# Altium schematic symbol library SEMATIK_LIB.SchLib: 632 symbols (part 19 of 21)
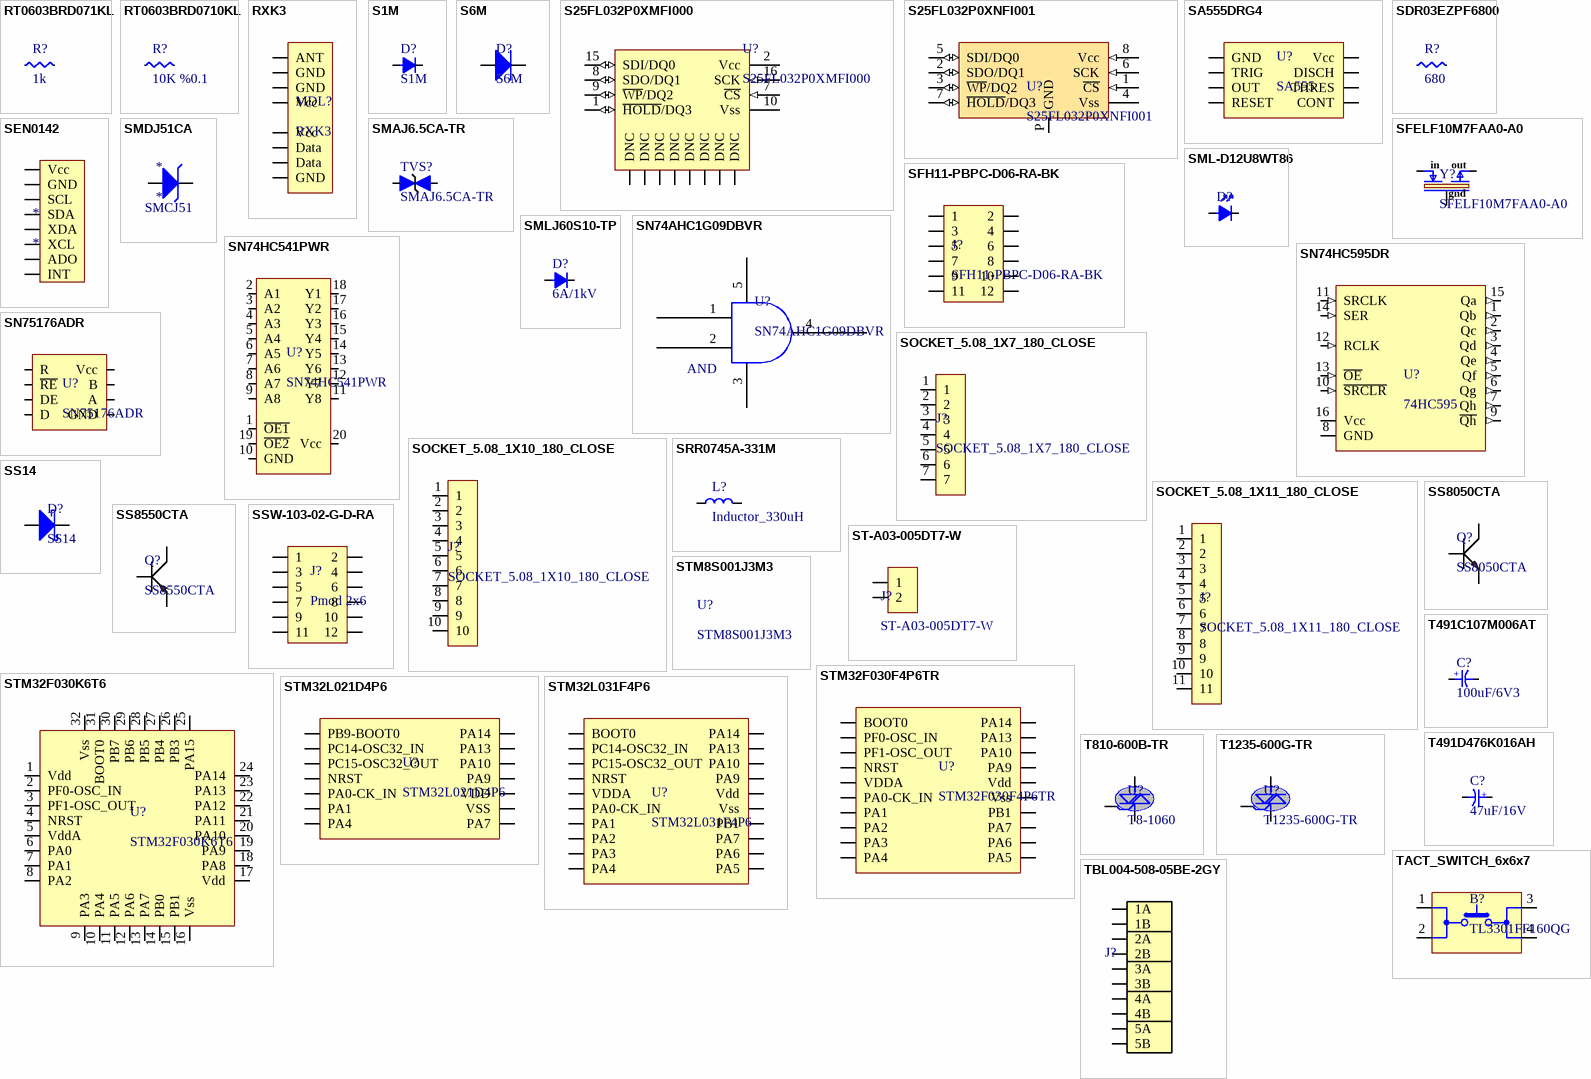
[diagram p34: symbols RT0603BRD071KL to TBL004-508-05BE-2GY]

## ST-A03-005DT7-W
designator J?
CONN JACK POWER 2570 IEC APPLIANCE INLET C8, PCB; Manufacturer: Schurter; Manufacturer Part Number: 4300.0104; Connector Type: Receptacle; Current: 2.5A; Fuse: No; Number of Positions: 2; Ratings: IP20; Approvals: UL,VDE,CCC; Supplier 1: Digi-Key; Stock 1: 2832; Pricing 1: 1 = 0,93000, 50 = 0,67600, 100 = 0,51600, 500 = 0,36400, 1000 = 0,35640 (USD); RoHS: No; Mount: Through Hole,Panel,Snap in; Packaging: Bulk; Termination: Quick Connect; Flammability Rating: UL94 V-0; ComponentLink1URL: https://us.schurter.com/bundles/snceschurter/epim/_ProdPool_/newDS/en/typ_2570.pdf?src-supplier=Digi-Key; ComponentLink1Description: https://us.schurter.com/bundles/snceschurter/epim/_ProdPool_/newDS/en/typ_2570.pdf?src-supplier=Digi-Key; Supplier Part Number 1: 486-4133-ND
footprint CONN_JACK_POWER_CHINA
pins: 1, 2

## STM8S001J3M3
designator U?
IC MCU 8BIT 8KB FLASH 16MHZ SO8M; Manufacturer: STMicroelectronics; Interface: I2C,SPI,IrDA,UART,USART; Peripherals: Brown-out Detect/Reset,POR,PWM,WDT; Number of I/Os: 5; Oscillator Type: Internal; Supplier 1: Digi-Key; Manufacturer Part Number: STM8S001J3M3; Stock 1: 5057; Pricing 1: 1 = 0,63000, 10 = 0,55400, 25 = 0,52080, 100 = 0,42500, 250 = 0,39480, 500 = 0,33600, 1000 = 0,26880, 2500 = 0,24360, 5000 = 0,22680 (USD); RoHS: No; Case/Package: SOIC; Min Operating Temperature: -40°C; Max Operating Temperature: 125°C; Memory Type: FLASH; Packaging: Rail/Tube; Frequency: 16MHz; Memory Size: 8KB; ComponentLink1URL: http://www.st.com/content/ccc/resource/technical/document/datasheet/group3/18/df/6e/12/9c/ca/41/75/DM00390996/files/DM00390996.pdf/jcr:content/translations/en.DM00390996.pdf?src-supplier=Digi-Key; ComponentLink1Description: http://www.st.com/content/ccc/resource/technical/document/datasheet/group3/18/df/6e/12/9c/ca/41/75/DM00390996/files/DM00390996.pdf/jcr:content/translations/en.DM00390996.pdf?src-supplier=Digi-Key; Supplier Part Number 1: 497-17612-ND

## STM32F030F4P6TR
designator U?
IC MCU 32BIT 16KB FLASH 20TSSOP; Manufacturer: STMicroelectronics; Frequency: 48MHz; Oscillator Type: Internal; Data Bus Width: 32b; Number of Programmable I/O: 15; Number of ADC Channels: 1; Peripherals: POR,PWM,WDT,DMA; Core Architecture: ARM; Operating Supply Voltage: 3.3V; RAM Size: 4KB; Max Power Dissipation: 182mW; Interface: I2C,SPI,USART,UART; Number of Timers/Counters: 10; Min Supply Voltage: 2.4V; Max Supply Voltage: 3.6V; Watchdog Timer: Yes; Supplier 1: Digi-Key; Manufacturer Part Number: STM32F030F4P6TR; RoHS: Yes; Category: Microcontrollers; Stock 1: 12305; Pricing 1: 1=1,18000, 10=1,05100, 25=0,99800, 100=0,81970, 250=0,76628, 500=0,67716, 1000=0,53460 (USD); Mount: Surface Mount; Case/Package: TSSOP; Number of Pins: 20; Weight: 0.006737oz; Contact Plating: Gold; Min Operating Temperature: -40°C; Max Operating Temperature: 85°C; Max Frequency: 48MHz; Number of SPI Channels: 1; Number of I2C Channels: 1; Packaging: Tape and Reel; Number of I/Os: 15; Package Quantity: 2500; Memory Type: FLASH; Memory Size: 16KB; Length: 6.6mm; Height: 1.05mm; Width: 4.5mm; Radiation Hardening: No; Lead Free: Lead Free; REACH SVHC: No SVHC; ComponentLink1URL: https://datasheet.ciiva.com/46427/1792126-46427290.pdf?src-supplier=Element14; ComponentLink1Description: https://datasheet.ciiva.com/46427/1792126-46427290.pdf?src-supplier=Element14; ComponentLink2URL: https://datasheet.ciiva.com/29719/dm00088500-29719196.pdf?src-supplier=Digi-Key; ComponentLink2Description: https://datasheet.ciiva.com/29719/dm00088500-29719196.pdf?src-supplier=Digi-Key; ComponentLink3URL: https://datasheet.ciiva.com/29987/dm00088500-29987016.pdf?src-supplier=Avnet; ComponentLink3Description: https://datasheet.ciiva.com/29987/dm00088500-29987016.pdf?src-supplier=Avnet; Supplier Part Number 1: 497-17333-6-ND
footprint TSSOP20
pins: 1 BOOT0, 2 PF0-OSC_IN, 3 PF1-OSC_OUT, 4 NRST, 5 VDDA, 6 PA0-CK_IN, 7 PA1, 8 PA2, 9 PA3, 10 PA4, 11 PA5, 12 PA6, 13 PA7, 14 PB1, 15 Vss, 16 Vdd, 17 PA9, 18 PA10, 19 PA13, 20 PA14

## STM32F030K6T6
designator U?
IC MCU 32BIT 32KB FLASH 32LQFP; Manufacturer: STMicroelectronics; Interface: I2C,SPI,UART,USART; Core Architecture: ARM; Operating Supply Voltage: 3.3V; Data Bus Width: 32b; Frequency: 48MHz; RAM Size: 4KB; Max Supply Voltage: 3.6V; Max Power Dissipation: 357mW; Number of I/Os: 26; Number of Timers/Counters: 5; Min Supply Voltage: 2.4V; Oscillator Type: Internal; Number of ADC Channels: 12; Number of SPI Channels: 1; Watchdog Timer: Yes; Peripherals: POR,PWM,WDT,DMA; Supplier 1: Digi-Key; Manufacturer Part Number: STM32F030K6T6; Stock 1: 0; Pricing 1: 1 = 1,81000, 10 = 1,61400, 25 = 1,53240, 100 = 1,25880, 250 = 1,17668, 500 = 1,03984, 1000 = 0,82093, 2500 = 0,76620, 5000 = 0,72789 (USD); RoHS: Yes; Case/Package: LQFP; Number of Pins: 32; Weight: 0.027302oz; Contact Plating: Tin; Min Operating Temperature: -40°C; Max Operating Temperature: 85°C; Package Quantity: 250; Packaging: Tray; Memory Type: FLASH; Max Frequency: 48MHz; Number of I2C Channels: 1; Number of Programmable I/O: 26; Memory Size: 32KB; Length: 7.2mm; Width: 7.2mm; Height: 1.45mm; Radiation Hardening: No; REACH SVHC: No SVHC; Lead Free: Lead Free; ComponentLink1URL: https://datasheet.ciiva.com/29987/dm00088500-29987017.pdf?src-supplier=Avnet; ComponentLink1Description: https://datasheet.ciiva.com/29987/dm00088500-29987017.pdf?src-supplier=Avnet; ComponentLink2URL: https://datasheet.ciiva.com/46427/1792126-46427291.pdf?src-supplier=Element14; ComponentLink2Description: https://datasheet.ciiva.com/46427/1792126-46427291.pdf?src-supplier=Element14; Supplier Part Number 1: 497-14046-ND
footprint LQFP32 (QFN, 32-Leads, Body 7,00x7,00mm, Pitch 0,80mm, Thermal Pad 6,15x6,15mm, IPC Medium Density)
pins: 1 Vdd, 2 PF0-OSC_IN, 3 PF1-OSC_OUT, 4 NRST, 5 VddA, 6 PA0, 7 PA1, 8 PA2, 9 PA3, 10 PA4, 11 PA5, 12 PA6, 13 PA7, 14 PB0, 15 PB1, 16 Vss, 17 Vdd, 18 PA8, 19 PA9, 20 PA10, 21 PA11, 22 PA12, 23 PA13, 24 PA14, 25 PA15, 26 PB3, 27 PB4, 28 PB5, 29 PB6, 30 PB7, 31 BOOT0, 32 Vss

## STM32L021D4P6
designator U?
IC MCU 32BIT 16KB FLASH 14TSSOP; Manufacturer: STMicroelectronics; Interface: I2C,SPI,IrDA,UART,USART; Peripherals: Brown-out Detect/Reset,POR,PWM,WDT,DMA; Core Architecture: ARM; Frequency: 32MHz; Number of I/Os: 11; Oscillator Type: Internal; Supplier 1: Digi-Key; Manufacturer Part Number: STM32L021D4P6; Stock 1: 798; Pricing 1: 1=1.73, 10=1.55, 25=1.4624, 100=1.2461, 250=1.17, 500=1.02376, 1000=0.84825, 2500=0.78975, 5000=0.7605 (USD); Case/Package: TSSOP; Min Operating Temperature: -40°C; Max Operating Temperature: 85°C; Packaging: Rail/Tube; Memory Type: FLASH; Memory Size: 16KB; Supplier Part Number 1: 497-17481-ND
footprint TSSOP14
pins: 1 PB9-BOOT0, 2 PC14-OSC32_IN, 3 PC15-OSC32_OUT, 4 NRST, 5 PA0-CK_IN, 6 PA1, 7 PA4, 8 PA7, 9 VSS, 10 VDD, 11 PA9, 12 PA10, 13 PA13, 14 PA14

## STM32L031F4P6
designator U?
IC MCU 32BIT 16KB FLASH 20TSSOP; Manufacturer: STMicroelectronics; Core Architecture: ARM; Interface: I2C,SPI,USART; Number of Timers/Counters: 4; Number of Programmable I/O: 15; Data Bus Width: 32b; Max Frequency: 32MHz; Watchdog Timer: Yes; Max Power Dissipation: 333mW; RAM Size: 8KB; Min Supply Voltage: 1.8V; Max Supply Voltage: 3.6V; Number of ADC Channels: 10; Supplier 1: Digi-Key; Manufacturer Part Number: STM32L031F4P6; RoHS: Yes; Category: Microcontrollers; Stock 1: 1317; Pricing 1: 1=1,83000, 10=1,64800, 25=1,55520, 100=1,32490, 250=1,24400, 500=1,08850, 1000=0,90190, 2500=0,83970, 5000=0,80860 (USD); Mount: Surface Mount; Case/Package: TSSOP; Number of Pins: 20; Min Operating Temperature: -40°C; Max Operating Temperature: 85°C; Memory Type: FLASH; Memory Size: 16KB; Number of I/Os: 15; Package Quantity: 600; ComponentLink1URL: http://www.mouser.com/ds/2/389/stm32l031g4-956322.pdf?src-supplier=Mouser; ComponentLink1Description: http://www.mouser.com/ds/2/389/stm32l031g4-956322.pdf?src-supplier=Mouser; ComponentLink2URL: http://www.st.com/content/ccc/resource/technical/document/reference_manual/21/bd/0f/bd/1c/88/40/f0/DM00108282.pdf/files/DM00108282.pdf/jcr:content/translations/en.DM00108282.pdf?src-supplier=Digi-Key; ComponentLink2Description: http://www.st.com/content/ccc/resource/technical/document/reference_manual/21/bd/0f/bd/1c/88/40/f0/DM00108282.pdf/files/DM00108282.pdf/jcr:content/translations/en.DM00108282.pdf?src-supplier=Digi-Key; ComponentLink3URL: http://www.st.com/content/ccc/resource/technical/document/datasheet/aa/5d/77/ad/1a/59/4a/b9/DM00140359.pdf/files/DM00140359.pdf/jcr:content/translations/en.DM00140359.pdf?src-supplier=Avnet+Asia; ComponentLink3Description: http://www.st.com/content/ccc/resource/technical/document/datasheet/aa/5d/77/ad/1a/59/4a/b9/DM00140359.pdf/files/DM00140359.pdf/jcr:content/translations/en.DM00140359.pdf?src-supplier=Avnet+Asia; Supplier Part Number 1: 497-17483-ND
footprint TSSOP20
pins: 1 BOOT0, 2 PC14-OSC32_IN, 3 PC15-OSC32_OUT, 4 NRST, 5 VDDA, 6 PA0-CK_IN, 7 PA1, 8 PA2, 9 PA3, 10 PA4, 11 PA5, 12 PA6, 13 PA7, 14 PB1, 15 Vss, 16 Vdd, 17 PA9, 18 PA10, 19 PA13, 20 PA14

## T491C107M006AT
designator C?, comment 100uF/6V3
CAP TANT uF 100 6.3V 20% 2312; Manufacturer: KEMET; Manufacturer Part Number: T491C107M006AT; Dielectric Material: Tantalum; Capacitance: 100uF; ESR (Equivalent Series Resistance): 900mR; Ripple Current: 350mA; Leakage Current: 8uA; Polarity: Polar; Voltage Rating (DC): 6V; Life (Hours): 2000Hour; Dissipation Factor: 8%; Supplier 1: Digi-Key; Stock 1: 31000; Pricing 1: 500 = 0,30856, 1000 = 0,25984, 2500 = 0,24360, 5000 = 0,22736, 12500 = 0,21599 (USD); RoHS: Yes; Mount: Surface Mount; Case/Package: Molded; Number of Pins: 2; Weight: 0.005291oz; Case Code (Metric): 6032; Case Code (Imperial): 2413; Min Operating Temperature: -55°C; Max Operating Temperature: 125°C; Voltage Rating: 6.3V; Tolerance: 20%; Packaging: Tape and Reel; Package Quantity: 1; Failure Rate: 0.001%; Termination: SMD/SMT; Features: General Purpose; Length: 6mm; Height: 2.8mm; Width: 0.126inch; Height - Seated (Max): 0.11inch; Depth: 3.2mm; Radiation Hardening: No; Lead Free: Lead Free; REACH SVHC: No SVHC; ComponentLink1URL: https://datasheet.ciiva.com/27052/1573863-27052574.pdf?src-supplier=Jameco; ComponentLink1Description: https://datasheet.ciiva.com/27052/1573863-27052574.pdf?src-supplier=Jameco; ComponentLink2URL: https://datasheet.ciiva.com/6229/kem-t2005-t491-6229067.pdf?src-supplier=Digi-Key; ComponentLink2Description: https://datasheet.ciiva.com/6229/kem-t2005-t491-6229067.pdf?src-supplier=Digi-Key; ComponentLink3URL: https://datasheet.ciiva.com/6229/kem-t2005-t491-6229068.pdf?src-supplier=Digi-Key; ComponentLink3Description: https://datasheet.ciiva.com/6229/kem-t2005-t491-6229068.pdf?src-supplier=Digi-Key; ComponentLink4URL: https://datasheet.ciiva.com/6229/kem-t2005-t491-6229069.pdf?src-supplier=Digi-Key; ComponentLink4Description: https://datasheet.ciiva.com/6229/kem-t2005-t491-6229069.pdf?src-supplier=Digi-Key; ComponentLink5URL: https://datasheet.ciiva.com/12911/kem-t2005-t491-12911359.pdf?src-supplier=Mouser; ComponentLink5Description: https://datasheet.ciiva.com/12911/kem-t2005-t491-12911359.pdf?src-supplier=Mouser; Supplier Part Number 1: 399-8339-2-ND
footprint CAP_TANTALUM_C_Case_2312
pins: 1, 2
text: +

## T491D476K016AH
designator C?, comment 47uF/16V
CAP TANT uF 47 10% 16V CASE D 2917; Manufacturer: KEMET; Manufacturer Part Number: T491D476K016AH; Polarity: Polar; Capacitance: 47uF; ESR (Equivalent Series Resistance): 800mR; Life (Hours): 2000Hour; Dissipation Factor: 6%; Supplier 1: Digi-Key; Stock 1: 43; Pricing 1: 1 = 1,30000, 10 = 1,02900, 50 = 0,89180, 100 = 0,77180 (USD); RoHS: Yes; Mount: Surface Mount; Case/Package: 2917; Number of Pins: 2; Case Code (Metric): 7343; Case Code (Imperial): 2917; Min Operating Temperature: -55°C; Max Operating Temperature: 125°C; Failure Rate: 0.001%; Termination: SMD/SMT; Voltage Rating: 16V; Tolerance: 10%; Packaging: Tape and Reel; Package Quantity: 500; Features: General Purpose; Voltage Rating (DC): 16V; Length: 7.3mm; Width: 0.169inch; Height: 3.1mm; Height - Seated (Max): 0.122inch; Depth: 4.3mm; Radiation Hardening: No; REACH SVHC: No SVHC; Lead Free: Lead Free; ComponentLink1URL: https://datasheet.ciiva.com/28638/1504561-28638832.pdf?src-supplier=Element14; ComponentLink1Description: https://datasheet.ciiva.com/28638/1504561-28638832.pdf?src-supplier=Element14; ComponentLink2URL: https://datasheet.ciiva.com/6229/kem-t2005-t491-6229241.pdf?src-supplier=Digi-Key; ComponentLink2Description: https://datasheet.ciiva.com/6229/kem-t2005-t491-6229241.pdf?src-supplier=Digi-Key; ComponentLink3URL: https://datasheet.ciiva.com/12910/kem-t2005-t491-12910027.pdf?src-supplier=Mouser; ComponentLink3Description: https://datasheet.ciiva.com/12910/kem-t2005-t491-12910027.pdf?src-supplier=Mouser; ComponentLink4URL: https://datasheet.ciiva.com/6246/kem-t2005-t491-6246750.pdf?src-supplier=Digi-Key; ComponentLink4Description: https://datasheet.ciiva.com/6246/kem-t2005-t491-6246750.pdf?src-supplier=Digi-Key; ComponentLink5URL: https://datasheet.ciiva.com/6246/kem-t2005-t491-6246751.pdf?src-supplier=Digi-Key; ComponentLink5Description: https://datasheet.ciiva.com/6246/kem-t2005-t491-6246751.pdf?src-supplier=Digi-Key; Supplier Part Number 1: 399-8390-1-ND
footprint CAP_TANT_Case_D
pins: 1, 2
text: +

## T810-600B-TR
designator U?, comment T8-1060
TRIAC SENS GATE 600V 8A DPAK; Manufacturer: STMicroelectronics; Manufacturer Part Number: T810-600B-TR; Element Configuration: Single; Hold Current: 15mA; Supplier 1: Digi-Key; Stock 1: 20404; Pricing 1: 1=1.38, 10=1.237, 100=0.9642, 500=0.7965, 1000=0.62882 (USD); Mount: Surface Mount; Case/Package: DPAK; Number of Pins: 3; Min Operating Temperature: -40°C; Max Operating Temperature: 125°C; Packaging: Tape and Reel; Package Quantity: 2500; RMS Current (Irms): 8A; Max Repetitive Reverse Voltage (Vrrm): 600V; Current Rating: 8A; Voltage Rating (DC): 600V; Length: 6.73mm; Height: 2.4mm; Width: 6.22mm; Radiation Hardening: No; Lead Free: Lead Free; ComponentLink1URL: http://www.st.com/web/en/resource/technical/document/datasheet/CD00002266.pdf?src-supplier=Avnet; ComponentLink1Description: http://www.st.com/web/en/resource/technical/document/datasheet/CD00002266.pdf?src-supplier=Avnet; ComponentLink2URL: http://www.mouser.com/ds/2/389/bta08-954515.pdf?src-supplier=Mouser; ComponentLink2Description: http://www.mouser.com/ds/2/389/bta08-954515.pdf?src-supplier=Mouser; ComponentLink3URL: https://www.verical.com/server-webapp/html/getDatasheet?partID=136340&src-supplier=Verical; ComponentLink3Description: https://www.verical.com/server-webapp/html/getDatasheet?partID=136340&src-supplier=Verical; ComponentLink4URL: http://www.st.com/web/en/resource/technical/document/datasheet/CD00002266.pdf?src-supplier=Future+Electronics; ComponentLink4Description: http://www.st.com/web/en/resource/technical/document/datasheet/CD00002266.pdf?src-supplier=Future+Electronics; ComponentLink5URL: http://datasheet.iiic.cc/stmicroelectronics/T810-600B-TR.pdf?src-supplier=IIIC; ComponentLink5Description: http://datasheet.iiic.cc/stmicroelectronics/T810-600B-TR.pdf?src-supplier=IIIC; Supplier Part Number 1: 497-6596-1-ND
footprint DPAK
pins: 1 A2, 2 A1, 3 GATE

## T1235-600G-TR
designator U?
TRIAC ALTERNISTOR 600V 12A D2PAK; Manufacturer 1: STMicroelectronics; Element Configuration: Single; Hold Current: 35mA; Supplier 1: Digi-Key; Manufacturer Part Number 1: T1235-600G-TR; Description 1: TRIAC ALTERNISTOR 600V 12A D2PAK; Stock 1: 10854; Pricing 1: 1=1.54, 10=1.387, 100=1.1149, 500=0.91604 (USD); Mount: Surface Mount; Case/Package: D2PAK; Number of Pins: 3; Min Operating Temperature: -40°C; Max Operating Temperature: 125°C; Packaging: Tape and Reel; Package Quantity: 1000; RMS Current (Irms): 12A; Max Repetitive Reverse Voltage (Vrrm): 600V; Current Rating: 12A; Voltage Rating (DC): 600V; Length: 10.28mm; Height: 4.6mm; Width: 9.35mm; Radiation Hardening: No; REACH SVHC: No SVHC; Lead Free: Lead Free; ComponentLink1URL: http://www.st.com/st-web-ui/static/active/en/resource/technical/document/datasheet/CD00002267.pdf?src-supplier=Avnet+Europe; ComponentLink1Description: http://www.st.com/st-web-ui/static/active/en/resource/technical/document/datasheet/CD00002267.pdf?src-supplier=Avnet+Europe; ComponentLink2URL: http://www.farnell.com/datasheets/1717978.pdf?src-supplier=Element14; ComponentLink2Description: http://www.farnell.com/datasheets/1717978.pdf?src-supplier=Element14; ComponentLink3URL: https://www.verical.com/server-webapp/html/getDatasheet?partID=93194&src-supplier=Verical; ComponentLink3Description: https://www.verical.com/server-webapp/html/getDatasheet?partID=93194&src-supplier=Verical; Supplier Part Number 1: 497-6592-1-ND
footprint D2PAK
pins: 1 A1, 2 A2, 3 GATE

## TACT_SWITCH_6x6x7
designator B?, comment TL3301FF160QG
SWITCH TACTILE SPST-NO 0.05A 12V; Manufacturer: E-Switch; Switch Function: Off-Mom; Contact Rating @ Voltage: 0.05A @ 12VDC; Actuator Type: Standard; Actuator Height off PCB, Vertical: 7.00mm; Actuator Orientation: Top Actuated; Outline: 6.00mm x 6.00mm; Illumination: Non-Illuminated; Operating Force: 160gf; Actuator Material: Polyamide (PA), Nylon; Switch Travel: 0.25mm; Mechanical Life: 100,000 Cycles; Supplier 1: Digi-Key; Manufacturer Part Number: TL3301FF160QG; RoHS: RoHS Compliant; Category: Switches; Stock 1: 36000; Pricing 1: 750=0.24, 1500=0.204, 5250=0.171 (USD); Packaging: Tape & Reel (TR); Part Status: Active; Circuit: SPST-NO; Mounting Type: Surface Mount; Actuator Length, Right Angle: -; Termination Style: Gull Wing; Illumination Type, Color: -; Illumination Voltage (Nominal): -; Ingress Protection: -; Features: -; Operating Temperature: -20°C ~ 70°C; ComponentLink1URL: http://spec_sheets.e-switch.com/specs/P010536.pdf; ComponentLink1Description: http://spec_sheets.e-switch.com/specs/P010536.pdf; Supplier Part Number 1: EG4375TR-ND
footprint Tact_Switch_smd_6x6x7
pins: 1, 2, 3, 4

## TBL004-508-05BE-2GY
designator J?  (value not drawn)
TERM BLOCK 5POS 5.08MM 90 DRC PCB SPRING TYPE; Manufacturer: CUI; Supplier 1: Digi-Key; Manufacturer Part Number: TBL004-508-05BE-2GY; Stock 1: 344; Pricing 1: 1 = 1,68000, 10 = 1,18300, 25 = 1,10320, 50 = 1,00120, 100 = 0,99680, 250 = 0,84172, 500 = 0,79740, 1000 = 0,70880, 5000 = 0,57590 (USD); RoHS: No; Supplier Part Number 1: 102-TBL004-508-05BE-2GY-ND
footprint SOCKET_5.08_2X5_Screwless_90
pins: 1A, 1B, 2A, 2B, 3A, 3B, 4A, 4B, 5A, 5B

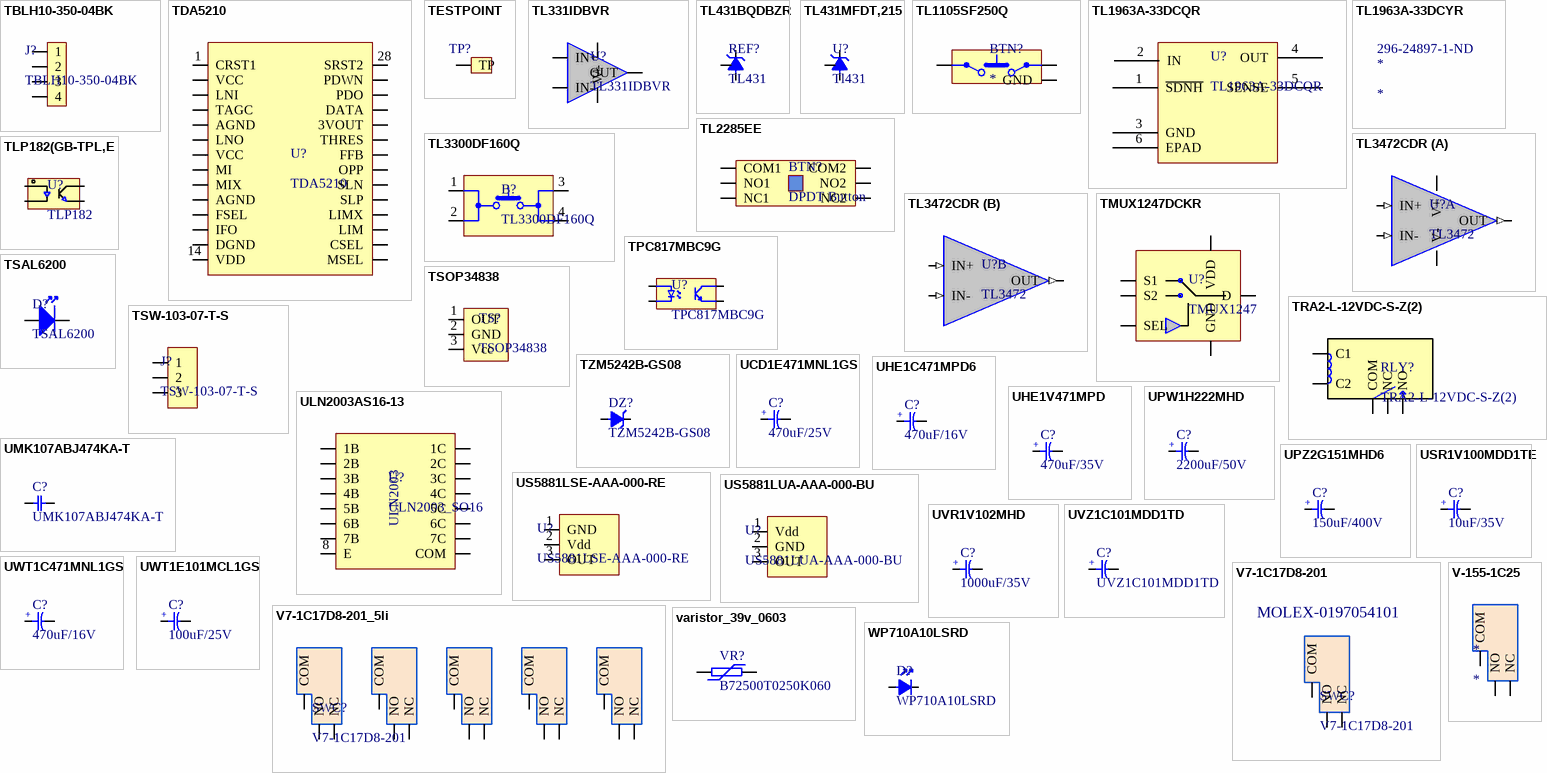
[diagram p15: symbols TBLH10-350-04BK to WP710A10LSRD]

## TBLH10-350-04BK
designator J?
TERM BLOCK 4POS 3.5mm SCREWLESS 90DEG HIGH; Manufacturer: CUI Devices; Supplier 1: Digi-Key; Manufacturer Part Number: TBLH10-350-04BK; Stock 1: 198; Pricing 1: 1 = 1,55000, 10 = 1,08700, 25 = 1,01360, 50 = 0,91980, 100 = 0,91580, 250 = 0,77332, 500 = 0,73260, 1000 = 0,65120, 5000 = 0,52910 (USD); RoHS: No; Supplier Part Number 1: 102-TBLH10-350-04BK-ND
footprint WIRETOBOARD_SCREWLESS_4PIN_3.5mm
pins: 1, 2, 3, 4

## TDA5210
designator U?
IC LP FSK/ASK SHR P-TSSOP-28; Manufacturer 1: Infineon; Frequency: 440MHz; Sensitivity: -107dBm; Data Rate: 100Kbps; Current - Receiving: 4.8mA; Operating Supply Voltage: 5V; Supplier 1: Digi-Key; Manufacturer Part Number 1: TDA5210; Description 1: IC LP FSK/ASK SHR P-TSSOP-28; Stock 1: 0; Case/Package: TSSOP; Number of Pins: 28; Min Operating Temperature: -40°C; Max Operating Temperature: 105°C; Package Quantity: 1; Packaging: Tape and Reel; Halogen Free: Halogen Free; REACH SVHC: No SVHC; Lead Free: Lead Free; ComponentLink1URL: http://www.infineon.com/dgdl/TDA5210_V3.0.pdf?folderId=db3a30431689f4420116a096e1db033e&fileId=db3a304316f66ee80117a09ca6915312&location=.en.product.findProductTypeByName.html_dgdl_TDA5210_V3.0.pdf&src-supplier=Digi-Key; ComponentLink1Description: http://www.infineon.com/dgdl/TDA5210_V3.0.pdf?folderId=db3a30431689f4420116a096e1db033e&fileId=db3a304316f66ee80117a09ca6915312&location=.en.product.findProductTypeByName.html_dgdl_TDA5210_V3.0.pdf&src-supplier=Digi-Key; Supplier Part Number 1: TDA5210INDKR-ND
footprint TSSOP28
pins: 1 CRST1, 2 VCC, 3 LNI, 4 TAGC, 5 AGND, 6 LNO, 7 VCC, 8 MI, 9 MIX, 10 AGND, 11 FSEL, 12 IFO, 13 DGND, 14 VDD, 15 MSEL, 16 CSEL, 17 LIM, 18 LIMX, 19 SLP, 20 SLN, 21 OPP, 22 FFB, 23 THRES, 24 3VOUT, 25 DATA, 26 PDO, 27 PDWN, 28 SRST2

## TESTPOINT
designator TP?, comment TestPoint  (value not drawn)
TEST POINT 2mmx2mm
footprint TESTPOINT
footprint TESTPOINT_VIA
pins: 1 TP "TEST POINT"

## TL331IDBVR
designator U?
IC COMPARATOR 1 DIFF SOT23-5; Manufacturer: Texas Instruments; Manufacturer Lifecycle Status: ACTIVE; Dual Supply Voltage: 9V; Input Bias Current: -25nA; Input Offset Voltage (Vos): 2V; Max Dual Supply Voltage: 18V; Max Input Current: 250nA; Max Junction Temperature (Tj): 125°C; Max Supply Current: 700µA; Max Supply Voltage: 36V; Min Dual Supply Voltage: 1V; Min Supply Voltage: 2mV; Nominal Supply Current: 400µA; Number of Channels: 1; Operating Supply Voltage: 28V; Output Current per Channel: 6mA; Output Type: TTL; Response Time: 1.3µs; Voltage Gain: 106.02dB; Supplier: Mouser; Supplier Part Number: 595-TL331IDBVR; Manufacturer Part Number: TL331IDBVR; RoHS: Compliant; Category: Amplifiers - Op Amps, Buffer, Instrumentation; Stock: 27963; Pricing: 1=0,43, 1=0,37, 10=0,302, 10=0,26, 25=0,231, 50=0,269, 100=0,233, 100=0,2, 250=0,186, 500=0,176, 1000=0,197, 1000=0,169, 3000=0,16, 6000=0,153, 10000=0,178 (USD); Case/Package: SOT-23; Contact Plating: Tin; Height: 1.45mm; Lead Free: Lead Free; Length: 2.9mm; Lifecycle Status: Production; Max Operating Temperature: 85°C; Min Operating Temperature: -40°C; Mounting Technology: Surface Mount; Number of Circuits: 1; Number of Elements: 1; Pins: 5; Quiescent Current: 700µA; Radiation Hardening: No; REACH SVHC: No; Schedule B: 8542390000, 8542390000|8542390000|8542390000|8542390000|8542390000|8542390000|8542390000|8542390000|8542390000|8542390000|8542390000|8542390000|8542390000|8542390000|8542390000|8542390000|8542390000|8542390000|8542390000|8542390000|8542390000|8542390000|8542390000|85; Termination: SMD/SMT; Thickness: 1.2mm; Weight: 15.790684mg; Width: 1.6mm; ComponentLink1URL: https://sigma.octopart.com:443/177332311/technical_drawing/Texas-Instruments-TL331IDBVR.pdf?src-supplier=Texas+Instruments; ComponentLink1Description: https://sigma.octopart.com:443/177332311/technical_drawing/Texas-Instruments-TL331IDBVR.pdf?src-supplier=Texas+Instruments; ComponentLink2URL: https://octopart.com:443/opatz8j6/c1?t=pZ_upD-Qkx8_QOmQ5k2TrLStz747xVFgtmfr-LUbSakqA8prZPO-ft51iySVpQIcj2YJ-EQF8g7D_2nWwyHmehwJqM8Ysm7n9uo_yniSlR4DoCxcc1R8Rek83kaOL-of_HwNrtChQiokOZ8v4DClZ7ehM-rAgzLH-8WgqMnxXXQzw6ROixNlPRwn0uiZS_ZFROD9s_PUAHlqnmAM5UiHQunEfuTdduJBDym5SrRV4E-uRDog0ASAxyCYZnMarkDCNdkviB8BOHgvKW8ogzl1e6pQ1op2wXXrHgYInsmQMEPOv3AJdDZT0IW9KBf5xxlyHh4PUPKK9bd8T1vqK4Ovf9YzEYuNCmy6gPZ-dHlGswZpMBM95ju4ZOuGlB8zlAa6yw&src-supplier=Texas+Instruments; ComponentLink2Description: https://octopart.com:443/opatz8j6/c1?t=pZ_upD-Qkx8_QOmQ5k2TrLStz747xVFgtmfr-LUbSakqA8prZPO-ft51iySVpQIcj2YJ-EQF8g7D_2nWwyHmehwJqM8Ysm7n9uo_yniSlR4DoCxcc1R8Rek83kaOL-of_HwNrtChQiokOZ8v4DClZ7ehM-rAgzLH-8WgqMnxXXQzw6ROixNlPRwn0uiZS_ZFROD9s_PUAHlqnmAM5UiHQunEfuTdduJBDym5SrRV4E-uRDog0ASAxyCYZnMarkDCNdkviB8BOHgvKW8ogzl1e6pQ1op2wXXrHgYInsmQMEPOv3AJdDZT0IW9KBf5xxlyHh4PUPKK9bd8T1vqK4Ovf9YzEYuNCmy6gPZ-dHlGswZpMBM95ju4ZOuGlB8zlAa6yw&src-supplier=Texas+Instruments; ComponentLink3URL: https://sigma.octopart.com:443/175570406/technical_drawing/Texas-Instruments-TL331IDBVR.pdf?src-supplier=Texas+Instruments; ComponentLink3Description: https://sigma.octopart.com:443/175570406/technical_drawing/Texas-Instruments-TL331IDBVR.pdf?src-supplier=Texas+Instruments; ComponentLink4URL: https://sigma.octopart.com:443/169406034/technical_drawing/Texas-Instruments-TL331IDBVR.pdf?src-supplier=Texas+Instruments; ComponentLink4Description: https://sigma.octopart.com:443/169406034/technical_drawing/Texas-Instruments-TL331IDBVR.pdf?src-supplier=Texas+Instruments; ComponentLink5URL: https://sigma.octopart.com:443/155939316/technical_drawing/Texas-Instruments-TL331IDBVR.pdf?src-supplier=Texas+Instruments; ComponentLink5Description: https://sigma.octopart.com:443/155939316/technical_drawing/Texas-Instruments-TL331IDBVR.pdf?src-supplier=Texas+Instruments; ComponentLink6URL: https://sigma.octopart.com:443/102331370/technical_drawing/Texas-Instruments-TL331IDBVR.pdf?src-supplier=Texas+Instruments; ComponentLink6Description: https://sigma.octopart.com:443/102331370/technical_drawing/Texas-Instruments-TL331IDBVR.pdf?src-supplier=Texas+Instruments; ComponentLink7URL: https://datasheet.octopart.com:443/TL331IDBVR-Texas-Instruments-datasheet-37140783.pdf?src-supplier=Texas+Instruments; ComponentLink7Description: https://datasheet.octopart.com:443/TL331IDBVR-Texas-Instruments-datasheet-37140783.pdf?src-supplier=Texas+Instruments; ComponentLink8URL: https://sigma.octopart.com:443/49249325/technical_drawing/Texas-Instruments-TL331IDBVR.pdf?src-supplier=Texas+Instruments; ComponentLink8Description: https://sigma.octopart.com:443/49249325/technical_drawing/Texas-Instruments-TL331IDBVR.pdf?src-supplier=Texas+Instruments; ComponentLink9URL: https://datasheet.octopart.com:443/TL331IDBVR-Texas-Instruments-datasheet-152486.pdf?src-supplier=Texas+Instruments; ComponentLink9Description: https://datasheet.octopart.com:443/TL331IDBVR-Texas-Instruments-datasheet-152486.pdf?src-supplier=Texas+Instruments; ComponentLink10URL: https://datasheet.octopart.com:443/TL331IDBVR-Texas-Instruments-datasheet-152487.pdf?src-supplier=Texas+Instruments; ComponentLink10Description: https://datasheet.octopart.com:443/TL331IDBVR-Texas-Instruments-datasheet-152487.pdf?src-supplier=Texas+Instruments; ComponentLink11URL: https://datasheet.octopart.com:443/TL331IDBVR-Texas-Instruments-datasheet-150593.pdf?src-supplier=Texas+Instruments; ComponentLink11Description: https://datasheet.octopart.com:443/TL331IDBVR-Texas-Instruments-datasheet-150593.pdf?src-supplier=Texas+Instruments; ComponentLink12URL: https://datasheet.octopart.com:443/TL331IDBVR-Texas-Instruments-datasheet-10888151.pdf?src-supplier=Upverter; ComponentLink12Description: https://datasheet.octopart.com:443/TL331IDBVR-Texas-Instruments-datasheet-10888151.pdf?src-supplier=Upverter; ComponentLink13URL: https://datasheet.octopart.com:443/TL331IDBVR-Texas-Instruments-datasheet-157246739.pdf?src-supplier=ODG+(Origin+Data+Global); ComponentLink13Description: https://datasheet.octopart.com:443/TL331IDBVR-Texas-Instruments-datasheet-157246739.pdf?src-supplier=ODG+(Origin+Data+Global); ComponentLink14URL: https://datasheet.octopart.com:443/TL331IDBVR-Texas-Instruments-datasheet-99356785.pdf?src-supplier=Newark; ComponentLink14Description: https://datasheet.octopart.com:443/TL331IDBVR-Texas-Instruments-datasheet-99356785.pdf?src-supplier=Newark; ComponentLink15URL: https://datasheet.octopart.com:443/TL331IDBVR-Texas-Instruments-datasheet-8464823.pdf?src-supplier=Newark; ComponentLink15Description: https://datasheet.octopart.com:443/TL331IDBVR-Texas-Instruments-datasheet-8464823.pdf?src-supplier=Newark; ComponentLink16URL: https://datasheet.octopart.com:443/TL331IDBVR-Texas-Instruments-datasheet-7549116.pdf?src-supplier=Newark; ComponentLink16Description: https://datasheet.octopart.com:443/TL331IDBVR-Texas-Instruments-datasheet-7549116.pdf?src-supplier=Newark; ComponentLink17URL: https://datasheet.octopart.com:443/TL331IDBVR-Texas-Instruments-datasheet-5425683.pdf?src-supplier=Newark; ComponentLink17Description: https://datasheet.octopart.com:443/TL331IDBVR-Texas-Instruments-datasheet-5425683.pdf?src-supplier=Newark; ComponentLink18URL: https://datasheet.octopart.com:443/TL331IDBVR-Texas-Instruments-datasheet-85098.pdf?src-supplier=Newark; ComponentLink18Description: https://datasheet.octopart.com:443/TL331IDBVR-Texas-Instruments-datasheet-85098.pdf?src-supplier=Newark; ComponentLink19URL: https://datasheet.octopart.com:443/TL331IDBVR-Texas-Instruments-datasheet-21260777.pdf?src-supplier=Newark; ComponentLink19Description: https://datasheet.octopart.com:443/TL331IDBVR-Texas-Instruments-datasheet-21260777.pdf?src-supplier=Newark; ComponentLink20URL: https://datasheet.octopart.com:443/TL331IDBVR-Texas-Instruments-datasheet-62118794.pdf?src-supplier=LCSC; ComponentLink20Description: https://datasheet.octopart.com:443/TL331IDBVR-Texas-Instruments-datasheet-62118794.pdf?src-supplier=LCSC; ComponentLink21URL: https://datasheet.octopart.com:443/TL331IDBVR-Texas-Instruments-datasheet-164462622.pdf?src-supplier=LCSC; ComponentLink21Description: https://datasheet.octopart.com:443/TL331IDBVR-Texas-Instruments-datasheet-164462622.pdf?src-supplier=LCSC; ComponentLink22URL: https://datasheet.octopart.com:443/TL331IDBVR-Texas-Instruments-datasheet-164418421.pdf?src-supplier=SHENGYU+ELECTRONICS; ComponentLink22Description: https://datasheet.octopart.com:443/TL331IDBVR-Texas-Instruments-datasheet-164418421.pdf?src-supplier=SHENGYU+ELECTRONICS; ComponentLink23URL: https://datasheet.octopart.com:443/TL331IDBVR-Texas-Instruments-datasheet-76802996.pdf?src-supplier=TME; ComponentLink23Description: https://datasheet.octopart.com:443/TL331IDBVR-Texas-Instruments-datasheet-76802996.pdf?src-supplier=TME; ComponentLink24URL: https://datasheet.octopart.com:443/TL331IDBVR-Texas-Instruments-datasheet-137316104.pdf?src-supplier=Future+Electronics; ComponentLink24Description: https://datasheet.octopart.com:443/TL331IDBVR-Texas-Instruments-datasheet-137316104.pdf?src-supplier=Future+Electronics; ComponentLink25URL: https://datasheet.octopart.com:443/TL331IDBVR-Texas-Instruments-datasheet-14143306.pdf?src-supplier=iiiC; ComponentLink25Description: https://datasheet.octopart.com:443/TL331IDBVR-Texas-Instruments-datasheet-14143306.pdf?src-supplier=iiiC; ComponentLink26URL: https://datasheet.octopart.com:443/TL331IDBVR-Texas-Instruments-datasheet-8428662.pdf?src-supplier=Jameco; ComponentLink26Description: https://datasheet.octopart.com:443/TL331IDBVR-Texas-Instruments-datasheet-8428662.pdf?src-supplier=Jameco; ComponentLink27URL: https://datasheet.octopart.com:443/TL331IDBVR-Texas-Instruments-datasheet-7932.pdf?src-supplier=Mouser; ComponentLink27Description: https://datasheet.octopart.com:443/TL331IDBVR-Texas-Instruments-datasheet-7932.pdf?src-supplier=Mouser; ComponentLink28URL: https://datasheet.octopart.com:443/TL331IDBVR-Texas-Instruments-datasheet-114615.pdf?src-supplier=Sierra+IC; ComponentLink28Description: https://datasheet.octopart.com:443/TL331IDBVR-Texas-Instruments-datasheet-114615.pdf?src-supplier=Sierra+IC; ComponentLink29URL: http://sigma.octopart.com:80/reach_statement/Texas-Instruments-company-64.pdf?src-supplier=Compliance+Statements; ComponentLink29Description: http://sigma.octopart.com:80/reach_statement/Texas-Instruments-company-64.pdf?src-supplier=Compliance+Statements; ComponentLink30URL: http://sigma.octopart.com:80/conflict_mineral_statement/Texas-Instruments-company-63.pdf?src-supplier=Compliance+Statements; ComponentLink30Description: http://sigma.octopart.com:80/conflict_mineral_statement/Texas-Instruments-company-63.pdf?src-supplier=Compliance+Statements
footprint SOT-23-5
pins: 1 IN-, 2 V-, 3 IN+, 4 OUT, 5 V+

## TL431BQDBZR
designator REF?, comment TL431
IC VREF SHUNT ADJ 0.5% SOT23-3; Manufacturer: Texas Instruments; Manufacturer Part Number: TL431BQDBZR; Manufacturer Lifecycle Status: ACTIVE; Cathode Current: 700µA; Max Supply Voltage: 37V; Max Output current: 100mA; Max Output Voltage: 36V; Min Input Voltage: 2.495V; Number of Channels: 1; Reference Type: Adjustable, Shunt; Temperature Coefficient: 34ppm/°C; Supplier: Mouser; Supplier Part Number: 595-TL431BQDBZR; RoHS: Compliant; Category: Voltage References; Stock: 4127; Pricing: 1=0,42, 10=0,292, 50=0,26, 100=0,224, 1000=0,188, 10000=0,17 (USD); Case/Package: SOT-23; Height: 1.22mm; Lead Free: Lead Free; Length: 2.92mm; Lifecycle Status: Production; Max Operating Temperature: 125°C; Min Operating Temperature: -40°C; Pins: 3; Output Current: 100mA; Output Voltage: 36V; Packaging: Cut Tape; Radiation Hardening: No; REACH SVHC: No; Reference Voltage: 36V; Schedule B: 8542390000, 8542390000|8542390000|8542390000|8542390000|8542390000; Thickness: 1mm; Tolerance: 0.5%; Width: 1.3mm; ComponentLink1URL: https://sigma.octopart.com:443/179129137/technical_drawing/Texas-Instruments-TL431BQDBZR.pdf?src-supplier=Texas+Instruments; ComponentLink1Description: https://sigma.octopart.com:443/179129137/technical_drawing/Texas-Instruments-TL431BQDBZR.pdf?src-supplier=Texas+Instruments; ComponentLink2URL: https://octopart.com:443/opatz8j6/c1?t=qbSo1ZRNxsSXxmfecFyQ8OEcNoScUtxoyOBv-74hQ53xy3QKIJk6k8oJUd1rdwFNo5Gr-qmD9Pnjb7VKP1PbK3lVpFN4VLBAwP9eifI3giT8e_ITYXodIEOh7pcklbvB0mTROFJFhrJixUrDMSR_GIrnow7O5U8p8x_Ez0jpgwXy-hkuoOJhCMBn6J6ShuMbZDeloDe2uv_FQD46kN7oX5UNObwSEZvKNCAlycfi5qsUetD4PzSA1WZUfNZpQkEU7pkT7JCdyKnNgkOJiWUGCxCVGuUOXojRtAwhCk6TwnaVZw2YAc13mfceVFVYhtlkUHA3VqRKtR5s92GbITSDnG9sfeAcW8elaVH_F6BXMFAEPbM2bfeY41mTIDx5dHF9vw&src-supplier=Texas+Instruments; ComponentLink2Description: https://octopart.com:443/opatz8j6/c1?t=qbSo1ZRNxsSXxmfecFyQ8OEcNoScUtxoyOBv-74hQ53xy3QKIJk6k8oJUd1rdwFNo5Gr-qmD9Pnjb7VKP1PbK3lVpFN4VLBAwP9eifI3giT8e_ITYXodIEOh7pcklbvB0mTROFJFhrJixUrDMSR_GIrnow7O5U8p8x_Ez0jpgwXy-hkuoOJhCMBn6J6ShuMbZDeloDe2uv_FQD46kN7oX5UNObwSEZvKNCAlycfi5qsUetD4PzSA1WZUfNZpQkEU7pkT7JCdyKnNgkOJiWUGCxCVGuUOXojRtAwhCk6TwnaVZw2YAc13mfceVFVYhtlkUHA3VqRKtR5s92GbITSDnG9sfeAcW8elaVH_F6BXMFAEPbM2bfeY41mTIDx5dHF9vw&src-supplier=Texas+Instruments; ComponentLink3URL: https://sigma.octopart.com:443/169406038/technical_drawing/Texas-Instruments-TL431BQDBZR.pdf?src-supplier=Texas+Instruments; ComponentLink3Description: https://sigma.octopart.com:443/169406038/technical_drawing/Texas-Instruments-TL431BQDBZR.pdf?src-supplier=Texas+Instruments; ComponentLink4URL: https://sigma.octopart.com:443/80351974/technical_drawing/Texas-Instruments-TL431BQDBZR.pdf?src-supplier=Texas+Instruments; ComponentLink4Description: https://sigma.octopart.com:443/80351974/technical_drawing/Texas-Instruments-TL431BQDBZR.pdf?src-supplier=Texas+Instruments; ComponentLink5URL: https://sigma.octopart.com:443/78374974/technical_drawing/Texas-Instruments-TL431BQDBZR.pdf?src-supplier=Texas+Instruments; ComponentLink5Description: https://sigma.octopart.com:443/78374974/technical_drawing/Texas-Instruments-TL431BQDBZR.pdf?src-supplier=Texas+Instruments; ComponentLink6URL: https://datasheet.octopart.com:443/TL431BQDBZR-Texas-Instruments-datasheet-37140784.pdf?src-supplier=Texas+Instruments; ComponentLink6Description: https://datasheet.octopart.com:443/TL431BQDBZR-Texas-Instruments-datasheet-37140784.pdf?src-supplier=Texas+Instruments; ComponentLink7URL: https://datasheet.octopart.com:443/TL431BQDBZR-Texas-Instruments-datasheet-22066926.pdf?src-supplier=Texas+Instruments; ComponentLink7Description: https://datasheet.octopart.com:443/TL431BQDBZR-Texas-Instruments-datasheet-22066926.pdf?src-supplier=Texas+Instruments; ComponentLink8URL: https://datasheet.octopart.com:443/TL431BQDBZR-Texas-Instruments-datasheet-21221811.pdf?src-supplier=Texas+Instruments; ComponentLink8Description: https://datasheet.octopart.com:443/TL431BQDBZR-Texas-Instruments-datasheet-21221811.pdf?src-supplier=Texas+Instruments; ComponentLink9URL: https://datasheet.octopart.com:443/TL431BQDBZR-Texas-Instruments-datasheet-11514612.pdf?src-supplier=Texas+Instruments; ComponentLink9Description: https://datasheet.octopart.com:443/TL431BQDBZR-Texas-Instruments-datasheet-11514612.pdf?src-supplier=Texas+Instruments; ComponentLink10URL: https://datasheet.octopart.com:443/TL431BQDBZR-Texas-Instruments-datasheet-149617.pdf?src-supplier=Texas+Instruments; ComponentLink10Description: https://datasheet.octopart.com:443/TL431BQDBZR-Texas-Instruments-datasheet-149617.pdf?src-supplier=Texas+Instruments; ComponentLink11URL: https://sigma.octopart.com:443/49250660/technical_drawing/Texas-Instruments-TL431BQDBZR.pdf?src-supplier=Texas+Instruments; ComponentLink11Description: https://sigma.octopart.com:443/49250660/technical_drawing/Texas-Instruments-TL431BQDBZR.pdf?src-supplier=Texas+Instruments; ComponentLink12URL: https://datasheet.octopart.com:443/TL431BQDBZR-Texas-Instruments-datasheet-66581701.pdf?src-supplier=element14+APAC; ComponentLink12Description: https://datasheet.octopart.com:443/TL431BQDBZR-Texas-Instruments-datasheet-66581701.pdf?src-supplier=element14+APAC; ComponentLink13URL: https://datasheet.octopart.com:443/TL431BQDBZR-Texas-Instruments-datasheet-165804567.pdf?src-supplier=LCSC; ComponentLink13Description: https://datasheet.octopart.com:443/TL431BQDBZR-Texas-Instruments-datasheet-165804567.pdf?src-supplier=LCSC; ComponentLink14URL: https://datasheet.octopart.com:443/TL431BQDBZR-Texas-Instruments-datasheet-159117715.pdf?src-supplier=LCSC; ComponentLink14Description: https://datasheet.octopart.com:443/TL431BQDBZR-Texas-Instruments-datasheet-159117715.pdf?src-supplier=LCSC; ComponentLink15URL: https://datasheet.octopart.com:443/TL431BQDBZR-Texas-Instruments-datasheet-164418451.pdf?src-supplier=SHENGYU+ELECTRONICS; ComponentLink15Description: https://datasheet.octopart.com:443/TL431BQDBZR-Texas-Instruments-datasheet-164418451.pdf?src-supplier=SHENGYU+ELECTRONICS; ComponentLink16URL: https://datasheet.octopart.com:443/TL431BQDBZR-Texas-Instruments-datasheet-38226331.pdf?src-supplier=Newark; ComponentLink16Description: https://datasheet.octopart.com:443/TL431BQDBZR-Texas-Instruments-datasheet-38226331.pdf?src-supplier=Newark; ComponentLink17URL: https://datasheet.octopart.com:443/TL431BQDBZR-Texas-Instruments-datasheet-37140351.pdf?src-supplier=Newark; ComponentLink17Description: https://datasheet.octopart.com:443/TL431BQDBZR-Texas-Instruments-datasheet-37140351.pdf?src-supplier=Newark; ComponentLink18URL: https://datasheet.octopart.com:443/TL431BQDBZR-Texas-Instruments-datasheet-33011757.pdf?src-supplier=Newark; ComponentLink18Description: https://datasheet.octopart.com:443/TL431BQDBZR-Texas-Instruments-datasheet-33011757.pdf?src-supplier=Newark; ComponentLink19URL: https://datasheet.octopart.com:443/TL431BQDBZR-Texas-Instruments-datasheet-10882568.pdf?src-supplier=Arrow+Electronics; ComponentLink19Description: https://datasheet.octopart.com:443/TL431BQDBZR-Texas-Instruments-datasheet-10882568.pdf?src-supplier=Arrow+Electronics; ComponentLink20URL: https://datasheet.octopart.com:443/TL431BQDBZR-Texas-Instruments-datasheet-11548590.pdf?src-supplier=Arrow+Electronics; ComponentLink20Description: https://datasheet.octopart.com:443/TL431BQDBZR-Texas-Instruments-datasheet-11548590.pdf?src-supplier=Arrow+Electronics; ComponentLink21URL: https://datasheet.octopart.com:443/TL431BQDBZR-Texas-Instruments-datasheet-10218417.pdf?src-supplier=element14; ComponentLink21Description: https://datasheet.octopart.com:443/TL431BQDBZR-Texas-Instruments-datasheet-10218417.pdf?src-supplier=element14; ComponentLink22URL: https://datasheet.octopart.com:443/TL431BQDBZR-Texas-Instruments-datasheet-10027895.pdf?src-supplier=element14; ComponentLink22Description: https://datasheet.octopart.com:443/TL431BQDBZR-Texas-Instruments-datasheet-10027895.pdf?src-supplier=element14; ComponentLink23URL: https://datasheet.octopart.com:443/TL431BQDBZR-Texas-Instruments-datasheet-8886313.pdf?src-supplier=element14; ComponentLink23Description: https://datasheet.octopart.com:443/TL431BQDBZR-Texas-Instruments-datasheet-8886313.pdf?src-supplier=element14; ComponentLink24URL: https://datasheet.octopart.com:443/TL431BQDBZR-Texas-Instruments-datasheet-8826676.pdf?src-supplier=element14; ComponentLink24Description: https://datasheet.octopart.com:443/TL431BQDBZR-Texas-Instruments-datasheet-8826676.pdf?src-supplier=element14; ComponentLink25URL: https://datasheet.octopart.com:443/TL431BQDBZR-Texas-Instruments-datasheet-8735770.pdf?src-supplier=element14; ComponentLink25Description: https://datasheet.octopart.com:443/TL431BQDBZR-Texas-Instruments-datasheet-8735770.pdf?src-supplier=element14; ComponentLink26URL: https://datasheet.octopart.com:443/TL431BQDBZR-Texas-Instruments-datasheet-8724803.pdf?src-supplier=element14; ComponentLink26Description: https://datasheet.octopart.com:443/TL431BQDBZR-Texas-Instruments-datasheet-8724803.pdf?src-supplier=element14; ComponentLink27URL: https://datasheet.octopart.com:443/TL431BQDBZR-Texas-Instruments-datasheet-8525108.pdf?src-supplier=element14; ComponentLink27Description: https://datasheet.octopart.com:443/TL431BQDBZR-Texas-Instruments-datasheet-8525108.pdf?src-supplier=element14; ComponentLink28URL: https://datasheet.octopart.com:443/TL431BQDBZR-Texas-Instruments-datasheet-8463480.pdf?src-supplier=element14; ComponentLink28Description: https://datasheet.octopart.com:443/TL431BQDBZR-Texas-Instruments-datasheet-8463480.pdf?src-supplier=element14; ComponentLink29URL: https://datasheet.octopart.com:443/TL431BQDBZR-Texas-Instruments-datasheet-7546206.pdf?src-supplier=element14; ComponentLink29Description: https://datasheet.octopart.com:443/TL431BQDBZR-Texas-Instruments-datasheet-7546206.pdf?src-supplier=element14; ComponentLink30URL: https://datasheet.octopart.com:443/TL431BQDBZR-Texas-Instruments-datasheet-5314698.pdf?src-supplier=element14; ComponentLink30Description: https://datasheet.octopart.com:443/TL431BQDBZR-Texas-Instruments-datasheet-5314698.pdf?src-supplier=element14; ComponentLink31URL: https://datasheet.octopart.com:443/TL431BQDBZR-Texas-Instruments-datasheet-8443004.pdf?src-supplier=Jameco; ComponentLink31Description: https://datasheet.octopart.com:443/TL431BQDBZR-Texas-Instruments-datasheet-8443004.pdf?src-supplier=Jameco; ComponentLink32URL: https://datasheet.octopart.com:443/TL431BQDBZR-Texas-Instruments-datasheet-153618.pdf?src-supplier=Mouser; ComponentLink32Description: https://datasheet.octopart.com:443/TL431BQDBZR-Texas-Instruments-datasheet-153618.pdf?src-supplier=Mouser; ComponentLink33URL: https://datasheet.octopart.com:443/TL431BQDBZR-Texas-Instruments-datasheet-3065.pdf?src-supplier=DigiKey; ComponentLink33Description: https://datasheet.octopart.com:443/TL431BQDBZR-Texas-Instruments-datasheet-3065.pdf?src-supplier=DigiKey; ComponentLink34URL: http://sigma.octopart.com:80/conflict_mineral_statement/Texas-Instruments-company-63.pdf?src-supplier=Compliance+Statements; ComponentLink34Description: http://sigma.octopart.com:80/conflict_mineral_statement/Texas-Instruments-company-63.pdf?src-supplier=Compliance+Statements; ComponentLink35URL: http://sigma.octopart.com:80/reach_statement/Texas-Instruments-company-64.pdf?src-supplier=Compliance+Statements; ComponentLink35Description: http://sigma.octopart.com:80/reach_statement/Texas-Instruments-company-64.pdf?src-supplier=Compliance+Statements
footprint SOT-23
pins: 1 Anode, 2 Cathode, 3 Ref

## TL431MFDT,215
designator U?, comment Tl431
IC VREF SHUNT ADJ 0.5% SOT23; Manufacturer: Nexperia; Manufacturer Part Number: TL431MFDT,215; Supplier 1: Digi-Key; RoHS: Yes; Category: Voltage Regulators - Linear; Stock 1: 8254; Pricing 1: 1=0,41000, 10=0,33000, 25=0,30200, 100=0,22490, 250=0,20380, 500=0,16866, 1000=0,12650 (USD); RoHS Compliant: Yes; ComponentLink1URL: https://assets.nexperia.com/documents/data-sheet/TL431_FAM.pdf?src-supplier=Digi-Key; ComponentLink1Description: https://assets.nexperia.com/documents/data-sheet/TL431_FAM.pdf?src-supplier=Digi-Key; Supplier Part Number 1: 1727-7132-1-ND
footprint SOT-23
pins: 1 Anode, 2 Cathode, 3 Cathode

## TL1105SF250Q
designator BTN?
SWITCH TACTILE SPST-NO 0.05A 12V; Manufacturer: E-Switch; Manufacturer Part Number: TL1105SF250Q; Mechanical Life: 100000Cycles; Actuator Material: Nylon,Polyamide; Switch Function: Off-Mom; Max Voltage Rating (DC): 50V; Contact Resistance: 100mR; Operating Force: 250gf; Current Rating: 50mA; Actuator Type: Standard; Illumination Type: Non-Illuminated,Illuminated; Throw Configuration: SPST; Switch Travel: 0.25mm; Actuator Length: 5.8mm; Supplier 1: Digi-Key; Stock 1: 44712; Pricing 1: 1 = 0,32000, 10 = 0,31000, 25 = 0,29440, 100 = 0,26640, 250 = 0,24288, 500 = 0,22576, 1000 = 0,19260, 2500 = 0,18725, 5000 = 0,17655 (USD); RoHS: Yes; Mount: Through Hole; Contact Material: Bronze,Silver; Color: Black; Contact Plating: Silver; Housing Material: Nylon; Min Operating Temperature: -20°C; Max Operating Temperature: 70°C; Package Quantity: 1000; Packaging: Bulk; Voltage Rating (DC): 12V; Termination: PC Pin; Electrical Life: 100000Cycles; Contact Current Rating: 50mA; Orientation: Right Angle; Lead Free: Lead Free; REACH SVHC: No SVHC; ComponentLink1URL: https://datasheet.ciiva.com/2900/p021300b-2900920.pdf?src-supplier=Digi-Key; ComponentLink1Description: https://datasheet.ciiva.com/2900/p021300b-2900920.pdf?src-supplier=Digi-Key; Supplier Part Number 1: EG1840-ND
footprint TL1105
pins: 1, 2, 3 GND

## TL1963A-33DCQR
designator U?
IC REG LINEAR 3.3V 1.5A SOT223-6; Manufacturer: Texas Instruments; Output Configuration: Positive; Output Type: Fixed; Voltage - Input (Max): 20V; Voltage Dropout (Max): 0.55V @ 1.5A; PSRR: 63dB (120Hz); Control Features: Enable; Protection Features: Over Temperature, Reverse Polarity; Supplier 1: Digi-Key; Manufacturer Part Number: TL1963A-33DCQR; RoHS: RoHS Compliant; Category: Integrated Circuits (ICs); Stock 1: 1556; Pricing 1: 1=2.95, 10=2.648, 100=2.1692, 500=1.84658, 1000=1.55736 (USD); Packaging: Cut Tape (CT); Part Status: Active; Voltage - Output (Min/Fixed): 3.3V; Voltage - Output (Max): -; Current - Output: 1.5A; Operating Temperature: -40°C ~ 125°C; Mounting Type: Surface Mount; Package / Case: SOT-223-6; Supplier Device Package: SOT-223-6; ComponentLink1URL: http://www.ti.com/lit/ds/symlink/tl1963a.pdf; ComponentLink1Description: http://www.ti.com/lit/ds/symlink/tl1963a.pdf; Supplier Part Number 1: 296-24534-1-ND
footprint DCQ-PDSO-G6
pins: 1 ~{SDNH}, 2 IN, 3 GND, 4 OUT, 5 SENSE, 6 EPAD

## TL1963A-33DCYR
designator *  Supplier Part Number 1: 296-24897-1-ND
IC REG LDO 3.3V 1.5A SOT223; Manufacturer: Texas Instruments; Manufacturer Part Number: TL1963A-33DCYR; Number of Outputs: 1; Max Input Voltage: 20V; Min Input Voltage: 2.1V; Polarity: Positive; Output Type: Fixed; Dropout Voltage: 340mV; Accuracy: 3%; Quiescent Current: 1mA; Min Current Limit: 1.6A; Supplier 1: Digi-Key; Description 1: IC REG LDO 3.3V 1.5A SOT223; Stock 1: 23523; Pricing 1: 1 = 2,94000, 10 = 2,64200, 100 = 2,12370, 500 = 1,74482, 1000 = 1,44571 (USD); RoHS: Yes; Case/Package: SOT-223; Number of Pins: 4; Contact Plating: Tin; Min Operating Temperature: -40°C; Max Operating Temperature: 125°C; Output Voltage: 3.3V; Output Current: 1.5A; Package Quantity: 1; Max Output Current: 1.5A; Packaging: Tape and Reel; Min Output Voltage: 3.3V; Max Output Voltage: 3.3V; Number of Regulators: 1; Input Bias Current: 1mA; Nominal Output Voltage: 3.3V; Radiation Hardening: No; Lead Free: Lead Free; REACH SVHC: No SVHC; ComponentLink1URL: http://www.mouser.com/ds/2/405/slvs719g-522148.pdf; ComponentLink1Description: http://www.mouser.com/ds/2/405/slvs719g-522148.pdf; ComponentLink2URL: http://www.ti.com/lit/ds/symlink/tl1963a.pdf; ComponentLink2Description: http://www.ti.com/lit/ds/symlink/tl1963a.pdf; ComponentLink3URL: http://www.farnell.com/datasheets/1882025.pdf; ComponentLink3Description: http://www.farnell.com/datasheets/1882025.pdf; ComponentLink4URL: http://www.farnell.com/datasheets/2001646.pdf; ComponentLink4Description: http://www.farnell.com/datasheets/2001646.pdf

## TL2285EE
designator BTN?, comment DPDT Button
Tactile Switches DPDT ALT ACT PC MNT; Manufacturer: E-Switch; Manufacturer Part Number: TL2285EE; Switch Function: On-On; Electrical Life: 10000Cycles; Illumination Type: Illuminated; Contact Current Rating: 100mA; Voltage Rating (DC): 30V; Contact Resistance: 100mR; Actuator Length: 3mm; Supplier 1: Digi-Key; Stock 1: 1886; Pricing 1: 1 = 0,94000, 10 = 0,83700, 25 = 0,79440, 50 = 0,75540, 100 = 0,72010, 250 = 0,68836, 500 = 0,61776, 1000 = 0,58245 (USD); RoHS: Yes; Mount: Through Hole; Contact Plating: Silver; Housing Material: PBT; Orientation: Straight; Termination: PC Pin; Packaging: Bulk; Throw Configuration: DPDT; Current Rating: 100mA; Package Quantity: 1000; Max Voltage Rating (DC): 30V; Lead Free: Lead Free; ComponentLink1URL: https://datasheet.ciiva.com/16192/q228501-16192230.pdf?src-supplier=Onlinecomponents.com; ComponentLink1Description: https://datasheet.ciiva.com/16192/q228501-16192230.pdf?src-supplier=Onlinecomponents.com; ComponentLink2URL: https://datasheet.ciiva.com/2870/tl2285ee-2870113.pdf?src-supplier=Digi-Key; ComponentLink2Description: https://datasheet.ciiva.com/2870/tl2285ee-2870113.pdf?src-supplier=Digi-Key; Supplier Part Number 1: EG1872-ND
footprint PUSHBUTTON_DPDT
pins: 1 COM1, 2 NO1, 3 NC1, 4 NC2, 5 NO2, 6 COM2

## TL3300DF160Q
designator B?
SWITCH TACTILE SPST-NO 0.05A 12V; Manufacturer 1: E-Switch; Mechanical Life: 200000Cycles; Current Rating: 50mA; Operating Force: 160gf; Illumination Type: Non-Illuminated; Throw Configuration: SPST; Switch Travel: 0.35mm; Switch Function: Off-Mom; Actuator Type: Standard; Supplier 1: Digi-Key; Manufacturer Part Number 1: TL3300DF160Q; Description 1: SWITCH TACTILE SPST-NO 0.05A 12V; Stock 1: 53202; Pricing 1: 1=0.63, 10=0.609, 25=0.5976, 50=0.575, 100=0.4961, 250=0.451 (USD); Mount: Surface Mount; Case/Package: SMD/SMT; Contact Plating: Silver; Min Operating Temperature: -25°C; Max Operating Temperature: 70°C; Package Quantity: 1; Packaging: Tape and Reel; Voltage Rating (DC): 12V; Termination: Gull Wing; ComponentLink1URL: http://spec_sheets.e-switch.com/specs/N301101.pdf?src-supplier=Digi-Key; ComponentLink1Description: http://spec_sheets.e-switch.com/specs/N301101.pdf?src-supplier=Digi-Key; Supplier Part Number 1: EG4906CT-ND
footprint Tact_Switch_smd_12x12x4.3
footprint Tact_Switch_smd_(12x12x4.3)+(6x6x4.3)
pins: 1, 2, 3, 4